# EAGLE library part PAC1934 (library sensors)
Current & Power Monitors & Regulators Quad High-Side Current Sensor, I2C/SMBus, 32V with Accumulator
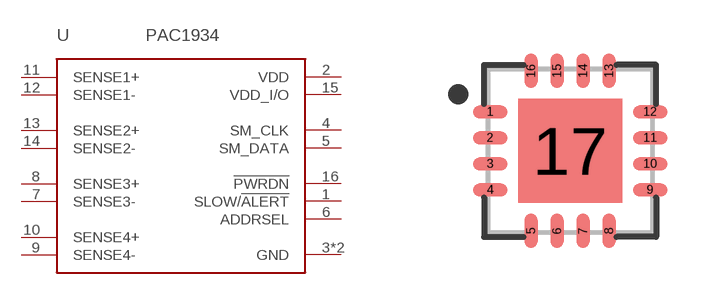
[diagram p5: symbol with the pads of UQFN-16(4×4×0.5MM); footprint UQFN-16(4×4×0.5MM)]

Designator prefix U

## PAC1934  [UQFN-16(4×4×0.5MM)]
1  SLOW/!ALERT
2  VDD
3  GND
4  SM_CLK
5  SM_DATA
6  ADDRSEL
7  SENSE3-
8  SENSE3+
9  SENSE4-
10  SENSE4+
11  SENSE1+
12  SENSE1-
13  SENSE2+
14  SENSE2-
15  VDD_I/O
16  !PWRDN
17  GND

## Footprint UQFN-16(4×4×0.5MM) (pad centres in mm)
16-QFN, 0.50 mm pitch, 4.00 X 4.00 X 0.50 mm body, 2.60 X 2.60 mm thermal pad 16-pin QFN package with 0.50 mm pitch with body size 4.00 X 4.00 X 0.50 mm and thermal pad size 2.60 X 2.60 mm
smd 0.86 x 0.32: 1 -2,0.975; 2 -2,0.325; 3 -2,-0.325; 4 -2,-0.975; 9 2,-0.975; 10 2,-0.325; 11 2,0.325; 12 2,0.975
smd 0.32 x 0.86: 5 -0.975,-2; 6 -0.325,-2; 7 0.325,-2; 8 0.975,-2; 13 0.975,2; 14 0.325,2; 15 -0.325,2; 16 -0.975,2
smd 2.6 x 2.6: 17 0,0